# Altium footprint library 5mm_4-pin_RGB_LED_CA.PcbLib: 1 footprints
Each footprint in its own frame and in the unit in brackets; x right, y up, seen from the top. Pads: shape width x height; smd on the part's side, far side on the other; paste and mask are expansions set on the pad; w line width, h text height; cw(c..) or ccw(c..) is an arc to the next point about the centre after c.
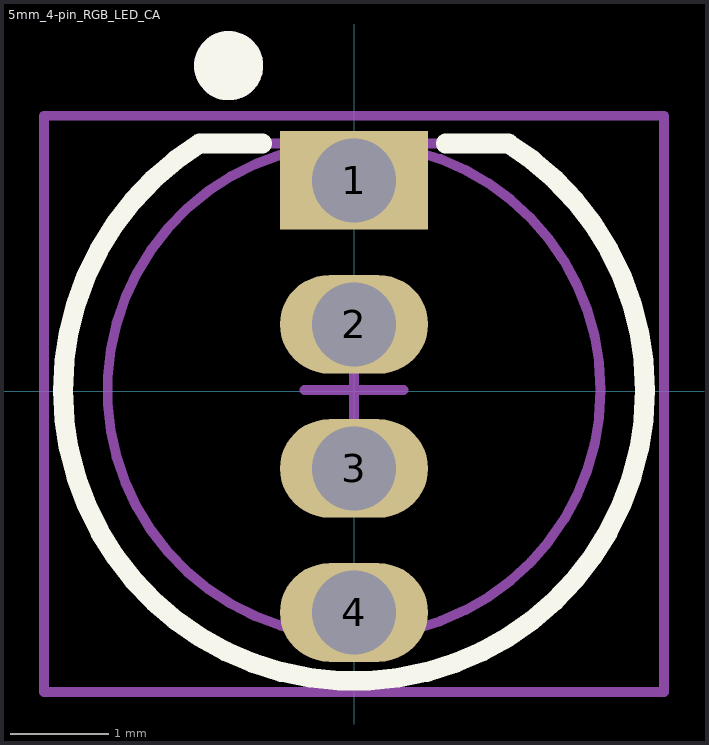
[diagram p0: the footprint, top view; thin cyan lines are the x and y axes]

## 5mm_4-pin_RGB_LED_CA [mm]
pads (4):
  rect 1.5x1 hole 0.85 paste+0: 1(0,2.14)
  oval 1.5x1 hole 0.85 paste+0: 2(0,0.68) 3(0,-0.78) 4(0,-2.24)
Top Overlay:
  circle w0.5: c-1.27,3.302 r0.1
  lines w0.2: -0.93,2.514 -1.566,2.514 ccw(c0,0.014) 1.566,2.514 0.93,2.514
Mechanical 1:
  circle w0.1: c0,0.014 r2.5
  circle w0.5: c-1.27,3.302 r0.1
  lines w0.1: -3.142,-3.048 3.142,-3.048 3.142,2.794 -3.142,2.794 -3.142,-3.048 ; -1.566,2.514 ccw(c0,0.014) 1.566,2.514 -1.566,2.514
  text ".Designator" at 0,0.205 h1.02
Mechanical 15:
  lines w0.1: -0.5,0.014 0.5,0.014 ; 0,-0.486 0,0.513
3D body "Led RGB 5mm.STEP": height 11.8, standoff -24, extent -2.9,-2.938 2.9,2.65